# Altium integrated library LM4910.IntLib: 1 symbol
Pins are listed as number, name and electrical type; pins without a type are passive.

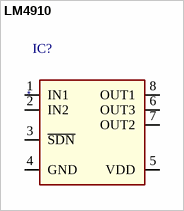
[diagram p0: symbol LM4910]

## LM4910
designator IC?
ID: LM4910MM/NOPB; PDF: http://www.ti.com/lit/ds/symlink/lm4910.pdf; PRICE: 1.57000; BUY_LINK: http://www.digikey.com/product-detail/en/LM4910MM%2FNOPB/LM4910MM%2FNOPBCT-ND/483103
footprint MSOP8
pins: 1 IN1, 2 IN2, 3 ~{SDN}, 4 GND, 5 VDD, 6 OUT3, 7 OUT2, 8 OUT1